# Altium footprint library 5v_supply.PcbLib: 1 footprints
Each footprint in its own frame and in the unit in brackets; x right, y up, seen from the top. Pads: shape width x height; smd on the part's side, far side on the other; paste and mask are expansions set on the pad; w line width, h text height; cw(c..) or ccw(c..) is an arc to the next point about the centre after c.
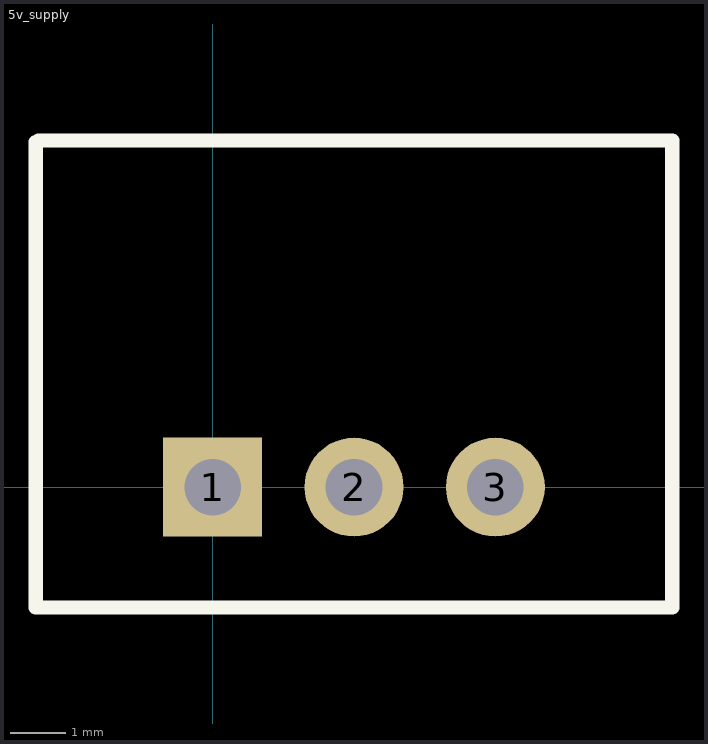
[diagram p0: the footprint, top view; thin cyan lines are the x and y axes]

## 5v_supply [mil]
pads (3):
  rect 70x70 hole 40 mask+2.5: 1(0,0)
  round 70 hole 40 mask+2.5: 2(100,0) 3(200,0)
Top Overlay:
  lines w10: -125,244 -125,-85 325,-85 325,245 -123,245